# Altium footprint library PanelDriver.PcbLib: 27 footprints (part 1 of 2)
Each footprint in its own frame and in the unit in brackets; x right, y up, seen from the top. Pads: shape width x height; smd on the part's side, far side on the other; paste and mask are expansions set on the pad; w line width, h text height; cw(c..) or ccw(c..) is an arc to the next point about the centre after c.
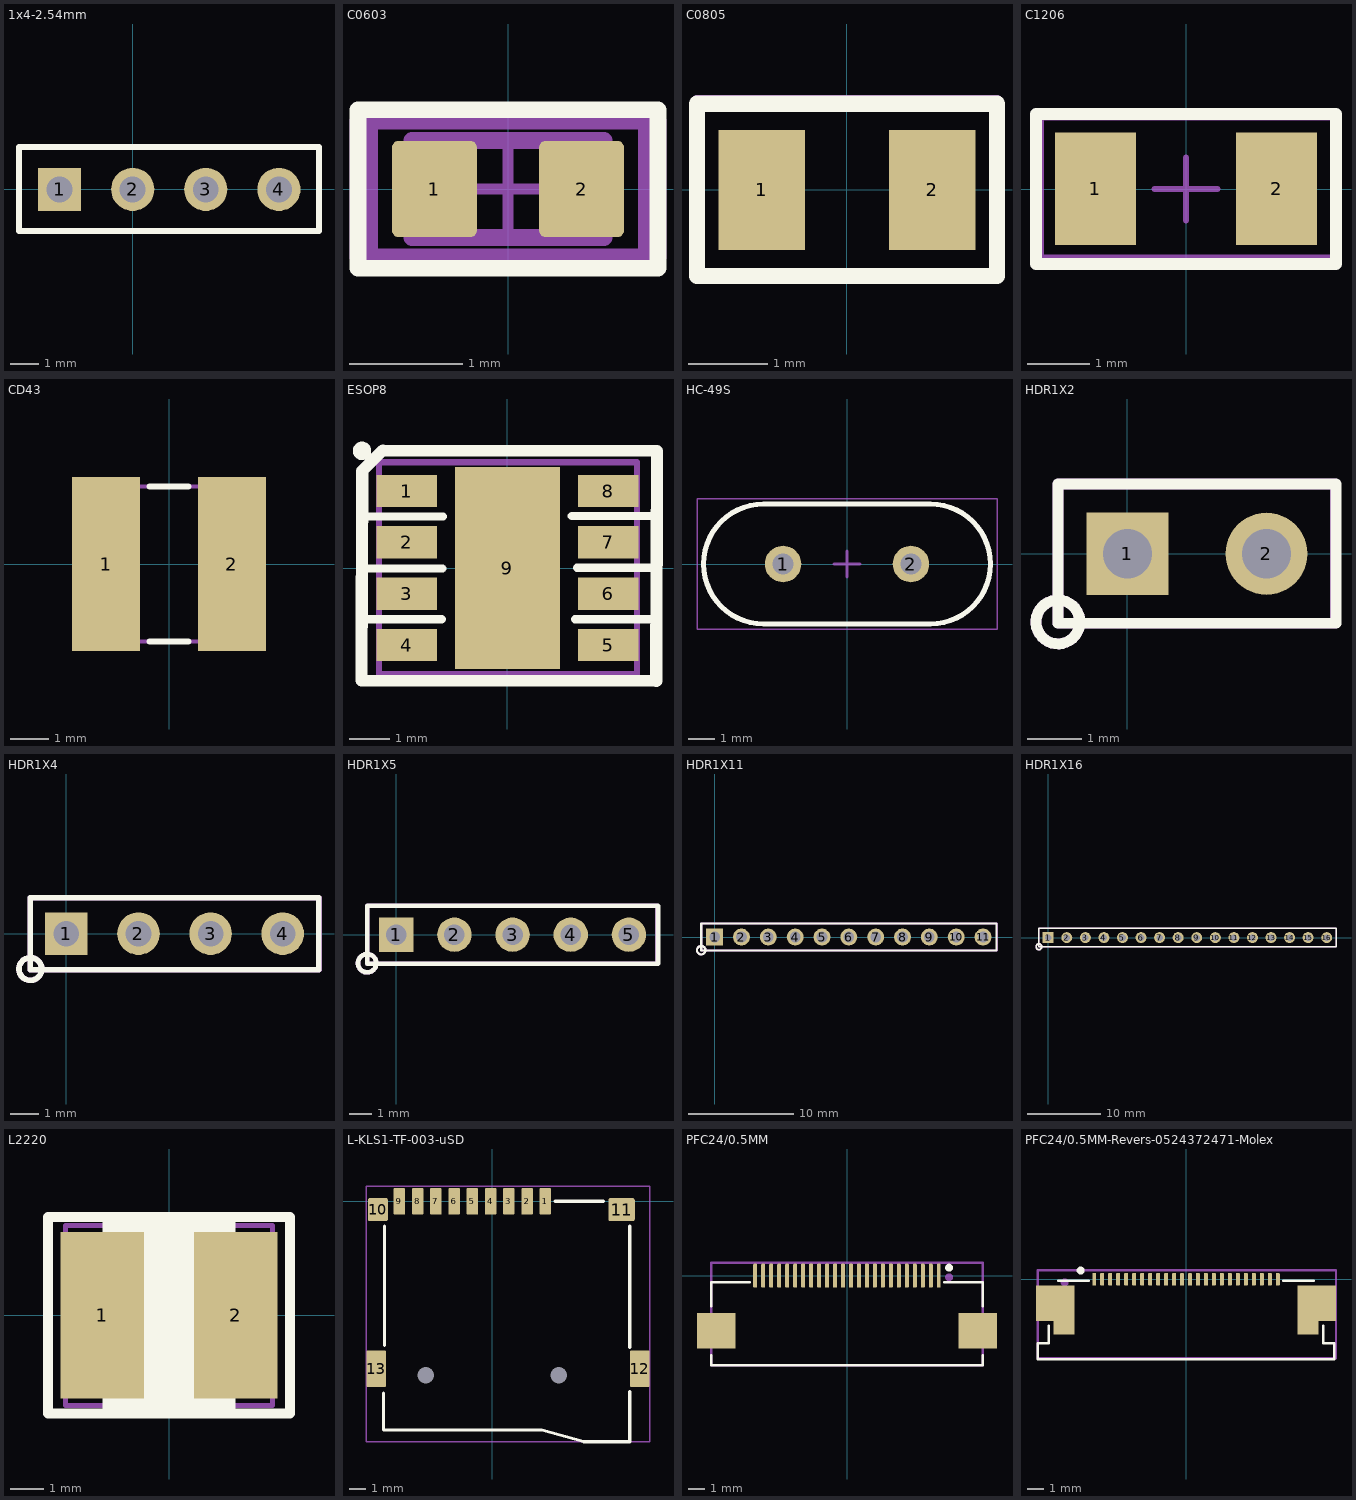
[diagram p0: the footprints below, top view; thin cyan lines are the x and y axes]

## 1x4-2.54mm [mm]
height 2.5
pads (4):
  rect 1.5x1.5 hole 0.9: 1(-2.54,0)
  round 1.5 hole 0.9: 2(0,0) 3(2.54,0) 4(5.08,0)
Top Overlay:
  lines w0.2: -3.95,-1.448 6.475,-1.448 6.475,1.473 -3.95,1.473 -3.95,-1.448
3D body "Header4x1_254mm.step": height 5.94, standoff -2.94, extent -3.815,-1.25 6.345,1.29

## C0603 [mm] "Chip Resistor, 2-Leads, Body 1,60x0,85mm, IPC HIGH Density"
pads (2):
  rrect15% 0.75x0.85 smd: 1(-0.65,0) 2(0.65,0)
Top Overlay:
  lines w0.15: -1.325,-0.7 -1.325,0.7 1.325,0.7 1.325,-0.7 -1.325,-0.7
Mechanical 11:
  lines w0.15: -0.85,-0.43 0.85,-0.43 0.85,0.43 -0.85,0.43 -0.85,-0.43
Top Assembly:
  lines w0.1: -1.2,-0.6 -1.2,0.6 1.2,0.6 1.2,-0.6 -1.2,-0.6
  text ".Designator" at -1.799,-0.181 h0.8
Bottom Assembly (Mech15):
  lines w0.1: -0.43,0 0.43,0 ; 0,-0.43 0,0.43
  lines w0.15: -1.325,-0.6 1.325,-0.6 1.325,0.6 -1.325,0.6 -1.325,-0.6
3D body "C_0603.step": height -0.37, standoff -1.15, extent -0.8,-0.405 0.8,0.405

## C0805 [mil] "Chip Capacitor, Body 2.0x1.3mm, IPC High Density"
height 55.12
pads (2):
  rect 43.31x60 smd mask+1.97: 1(-42.5,0) 2(42.5,0)
Top Overlay:
  lines w8: -74.8,-43 74.8,-43 74.8,43 -74.8,43 -74.8,-43
Top Assembly:
  lines w5.91: -74.8,-43.31 74.8,-43.31 74.8,44.29 -74.8,44.29 -74.8,-43.31
  text ".Designator" at -88.69,-8.92 h39.37
Bottom Assembly:
  lines w4.72: -74.8,-43.31 -74.8,43.94 74.8,43.94 74.8,-43.31 -74.8,-43.31
3D body "User Library-cap_0805_lowprofile.STEP": height 37.4, standoff 0, extent -39.36,-23.62 39.38,23.63

## C1206 [mm]
height 0.5
pads (2):
  rect 1.3x1.8 smd mask+0.05: 1(-1.45,0) 2(1.45,0)
Top Overlay:
  lines w0.2: -2.4,-1.2 2.4,-1.2 2.4,1.2 -2.4,1.2 -2.4,-1.2
Top Assembly:
  lines w0.15: -2.35,-1.125 2.4,-1.125 2.4,1.175 -2.35,1.175 -2.35,-1.125
  text ".Designator" at -2.816,-0.283 h1.25
Bottom Assembly (Mech15):
  lines w0.1: -0.5,0 0.5,0 ; 0,-0.5 0,0.5 ; -2.35,-1.15 2.35,-1.15 2.35,1.15 -2.35,1.15 -2.35,-1.15
3D body "User Library-CAPC3216X10.STEP": height 1, standoff 0, extent -1.6,-0.8 1.6,0.8

## CD43 [mm]
height 4.7
pads (2):
  rect 1.75x4.5 smd: 1(-1.625,0) 2(1.625,0)
Top Overlay:
  lines w0.15: -0.5,-2 0.5,-2 ; -0.5,2 0.5,2
Top Assembly:
  lines w0.1: -2,-2 2,-2 2,2 -2,2 -2,-2
  text ".Designator" at -4.506,-0.453 h2
3D body "cc453232-101kl.stp": height 3.2, standoff 0, extent -2.25,-1.6 2.25,1.6

## ESOP8 [mm] "SO8"
height 2.5
pads (9):
  rect 1.5x0.8 smd mask+0.05: 1(-2.494,1.905) 2(-2.494,0.635) 3(-2.494,-0.635) 4(-2.494,-1.905) 5(2.494,-1.905) 6(2.494,-0.635) 7(2.494,0.635) 8(2.494,1.905)
  rect 2.6x5 smd mask+0.05: 9(0,0)
Top Overlay:
  circle w0.254: c-3.6,2.9 r0.1
  lines w0.2: -3.628,-1.268 -1.628,-1.268 ; -3.609,-0.013 -1.609,-0.013 ; -3.6,1.272 -1.6,1.272 ; 1.591,1.287 3.591,1.287 ; 1.669,-1.268 3.669,-1.268 ; 1.725,0.006 3.725,0.006
  lines w0.3: -3.609,-2.781 -3.595,2.406 -3.085,2.913 3.695,2.896 3.681,-2.8 -3.609,-2.781
Top Assembly:
  circle w0.3: c-2.55,2 r0.1
  lines w0.15: -3.175,-2.625 3.2,-2.625 3.2,2.618 -3.175,2.618 -3.175,-2.625
  text ".Designator" at -1.799,-0.181 h0.8
3D body "SOIC-8.step": height 1.75, standoff 0, extent -3,-2.45 3,2.45

## HC-49S [mm] "Crystal"
height 4.2
pads (2):
  round 1.4 hole 0.8: 1(-2.45,0) 2(2.45,0)
Top Overlay:
  lines w0.2: -3.2,-2.3 cw(c-3.2,0) -3.2,2.3 3.2,2.3 cw(c3.2,0) 3.2,-2.3 -3.2,-2.3
Top Assembly:
  lines w0.15: -3.2,-2.3 cw(c-3.2,0) -3.2,2.3 3.2,2.3 cw(c3.2,0) 3.2,-2.3 -3.2,-2.3
  text ".Designator" at -4.506,-0.453 h2
Bottom Assembly (Mech15):
  lines w0.05: -5.75,-2.5 5.75,-2.5 5.75,2.5 -5.75,2.5 -5.75,-2.5
  lines w0.1: -0.5,0 0.5,0 ; 0,-0.5 0,0.5
3D body "User Library-HC-49.step": height 3.5, standoff -3, extent -5.4,-2.25 5.4,2.25

## HDR1X2 [mm] "Connector; Header; 2 Position"
pads (2):
  rect 1.5x1.5 hole 0.9: 1(0,0)
  round 1.5 hole 0.9: 2(2.54,0)
Top Overlay:
  circle w0.2: c-1.27,-1.246 r0.4
  lines w0.2: -1.27,-1.27 -1.27,1.27 3.81,1.27 3.81,-1.27 -1.27,-1.27
Top Assembly:
  circle w0.2: c-1.27,-1.246 r0.4
  lines w0.2: -1.27,-1.27 3.8,-1.27 3.8,1.27 0.635,1.27 -1.27,1.27 -1.27,-1.27
  text ".Designator" at -3.306,-0.553 h2

## HDR1X4 [mm] "Connector; Header; 4 Position"
height 1.35
pads (4):
  rect 1.5x1.5 hole 0.9: 1(0,0)
  round 1.5 hole 0.9: 2(2.54,0) 3(5.08,0) 4(7.62,0)
Top Overlay:
  circle w0.2: c-1.27,-1.246 r0.4
  lines w0.2: -1.27,-1.27 8.89,-1.27 8.89,1.27 -1.27,1.27 -1.27,-1.27
Top Assembly:
  circle w0.2: c-1.27,-1.246 r0.4
  lines w0.2: -1.27,-1.27 8.9,-1.27 8.9,1.27 0.635,1.27 -1.27,1.27 -1.27,-1.27
  text ".Designator" at -0.706,-0.553 h2

## HDR1X5 [mm] "Connector; Header; 5 Position"
height 1.35
pads (5):
  rect 1.5x1.5 hole 0.9: 1(0,0)
  round 1.5 hole 0.9: 2(2.54,0) 3(5.08,0) 4(7.62,0) 5(10.16,0)
Top Overlay:
  circle w0.2: c-1.27,-1.246 r0.4
  lines w0.2: -1.27,-1.27 11.43,-1.27 11.43,1.27 -1.27,1.27 -1.27,-1.27
Top Assembly:
  circle w0.2: c-1.27,-1.246 r0.4
  lines w0.2: -1.27,-1.27 11.4,-1.27 11.4,1.27 0.635,1.27 -1.27,1.27 -1.27,-1.27
  text ".Designator" at 0.494,-0.453 h2

## HDR1X11 [mm] "Connector; Header; 11 Position"
height 1.1
pads (11):
  rect 1.6x1.6 hole 1: 1(0,0)
  round 1.6 hole 1: 2(2.54,0) 3(5.08,0) 4(7.62,0) 5(10.16,0) 6(12.7,0) 7(15.24,0) 8(17.78,0) 9(20.32,0) 10(22.86,0) 11(25.4,0)
Top Overlay:
  circle w0.2: c-1.27,-1.246 r0.4
  lines w0.2: -1.27,-1.27 -1.27,1.27 0.635,1.27 26.67,1.27 26.67,-1.27 -1.27,-1.27
Top Assembly:
  circle w0.2: c-1.27,-1.246 r0.4
  lines w0.2: -1.27,-1.27 -1.27,1.27 0.635,1.27 26.721,1.27 26.721,-1.27 -1.27,-1.27
  text ".Designator" at 7.894,-0.453 h2

## HDR1X16 [mm] "Connector; Header; 16 Position"
height 1.35
pads (16):
  rect 1.5x1.5 hole 0.9: 1(0,0)
  round 1.5 hole 0.9: 2(2.54,0) 3(5.08,0) 4(7.62,0) 5(10.16,0) 6(12.7,0) 7(15.24,0) 8(17.78,0) 9(20.32,0) 10(22.86,0) 11(25.4,0) 12(27.94,0) 13(30.48,0) 14(33.02,0) 15(35.56,0) 16(38.1,0)
Top Overlay:
  circle w0.2: c-1.27,-1.246 r0.4
  lines w0.2: -1.27,-1.27 39.37,-1.27 39.37,1.27 0.635,1.27 -1.27,1.27 -1.27,-1.27
Top Assembly:
  circle w0.2: c-1.27,-1.246 r0.4
  lines w0.2: -1.27,-1.27 39.37,-1.27 39.37,1.27 0.635,1.27 -1.27,1.27 -1.27,-1.27
  text ".Designator" at 13.694,-0.453 h2

## L2220 [mm]
height 4.7
pads (2):
  rect 2.5x5 smd mask+0.05: 1(-2,0) 2(2,0)
Top Overlay:
  rectangle: -2,-2.9 2,3.025
  lines w0.3: -3.625,-2.95 -3.625,2.95 3.625,2.95 3.625,-2.95 -3.625,-2.95
Mechanical 11:
  lines w0.15: -3.1,-2.7 3.1,-2.7 3.1,2.7 -3.1,2.7 -3.1,-2.7
Top Assembly:
  lines w0.1: -3.675,-2.925 3.675,-2.925 3.675,3 -3.675,3 -3.675,-2.925
  text ".Designator" at -4.506,-0.453 h2
Bottom Assembly (Mech15):
  lines w0.15: -0.5,0 0.5,0 ; 0,-0.5 0,0.5 ; -3.6,-2.925 3.6,-2.925 3.6,2.925 -3.6,2.925 -3.6,-2.925
3D body "User Library-LQH55D series.step": height 4.7, standoff 0, extent -2.85,-2.5 2.85,2.5

## L-KLS1-TF-003-uSD [mm] "Secure Digital - microSD™ Surface Mount, Right Angle Gold"
height 1.7
pads (15):
  rrect19% 0.7x1.6 smd paste+0 mask+0: 1(3.2,0) 2(2.1,0) 3(1,0) 4(-0.1,0) 5(-1.2,0) 6(-2.3,0) 7(-3.4,0) 8(-4.5,0) 9(-5.6,0)
  rrect18% 1.2x1.4 smd paste+0 mask+0: 10(-6.9,-0.5)
  rrect18% 1.6x1.4 smd paste+0 mask+0: 11(7.8,-0.5)
  rrect14% 1.2x2.2 smd paste+0 mask+0: 12(8.9,-10.1) 13(-7,-10.1)
  round 0 hole 1 unplated paste+0 mask+0.05: 27(-4,-10.5) 28(4,-10.5)
Top Overlay:
  lines w0.2: -6.567,-11.567 -6.567,-13.8 3,-13.8 5.5,-14.5 8.3,-14.5 8.3,-11.5 ; -6.5,-8.7 -6.5,-1.5 ; 3.8,0 6.7,0 ; 8.3,-8.8 8.3,-1.5
Top Assembly:
  lines w0.1: -7.6,-14.5 9.5,-14.5 9.5,0.9 -7.6,0.9 -7.6,-14.5
  text ".Designator" at -5.958,-6.98 h3

## PFC24/0.5MM [mm]
pads (26):
  rrect50% 0.25x1.5 smd paste+0 mask+0.075: 1(5.75,0) 2(5.25,0) 3(4.75,0) 4(4.25,0) 5(3.75,0) 6(3.25,0) 7(2.75,0) 8(2.25,0) 9(1.75,0) 10(1.25,0) 11(0.75,0) 12(0.25,0) 13(-0.25,0) 14(-0.75,0) 15(-1.25,0) 16(-1.75,0) 17(-2.25,0) 18(-2.75,0) 19(-3.25,0) 20(-3.75,0) 21(-4.25,0) 22(-4.75,0) 23(-5.25,0) 24(-5.75,0)
  rect 2.4x2.2 smd paste+0 mask+0.1: ""(-8.2,-3.45) ""(8.2,-3.45)
Top Overlay:
  circle w0.3: c6.4,0.5 r0.1
  lines w0.15: -8.5,-4.975 -8.5,-5.6 8.5,-5.6 8.5,-4.975 ; -8.5,-1.925 -8.5,-0.4 -6.1,-0.4 ; 6.1,-0.4 8.5,-0.4 8.5,-1.925
Top Assembly:
  circle w0.3: c6.4,-0.1 r0.1
  lines w0.15: -8.5,-5.6 -8.5,0.8 8.5,0.8 8.5,-5.6 -8.5,-5.6
  text ".Designator" at -6.758,-2.88 h3
3D body "524372471.stp": height 2.15, standoff -0.01, extent -9.3,-5 9.3,0.2

## PFC24/0.5MM-Revers-0524372471-Molex [mm]
pads (28):
  rrect50% 0.25x0.8 smd paste+0 mask+0.075: 1(-5.75,0) 2(-5.25,0) 3(-4.75,0) 4(-4.25,0) 5(-3.75,0) 6(-3.25,0) 7(-2.75,0) 8(-2.25,0) 9(-1.75,0) 10(-1.25,0) 11(-0.75,0) 12(-0.25,0) 13(0.25,0) 14(0.75,0) 15(1.25,0) 16(1.75,0) 17(2.25,0) 18(2.75,0) 19(3.25,0) 20(3.75,0) 21(4.25,0) 22(4.75,0) 23(5.25,0) 24(5.75,0)
  rect 2.4x2.2 smd paste+0 mask+0.1: ""(-8.2,-1.5) ""(8.2,-1.5)
  rect 1.3x3.05 smd paste+0 mask+0.1: ""(-7.65,-1.925) ""(7.65,-1.925)
Top Overlay:
  circle w0.3: c-6.6,0.55 r0.1
  lines w0.15: -8.6,-2.9 -8.6,-4 -9.3,-4 -9.3,-5 9.3,-5 9.3,-4 8.6,-4 8.6,-2.9 ; -8,-0.1 -6.1,-0.1 ; 6.1,-0.1 8,-0.1
Top Assembly:
  circle w0.3: c-7.6,-0.2 r0.1
  lines w0.15: -9.3,-4.95 9.4,-4.95 9.4,0.575 -9.3,0.575 -9.3,-4.95
  text ".Designator" at -6.758,-2.88 h3
3D body "524372471.stp": height 2.15, standoff -0.01, extent -9.3,-5 9.3,0.2